# EAGLE library part FT232R (library ICs)
FTDI, USB TO UART, SMD, 28SSOP
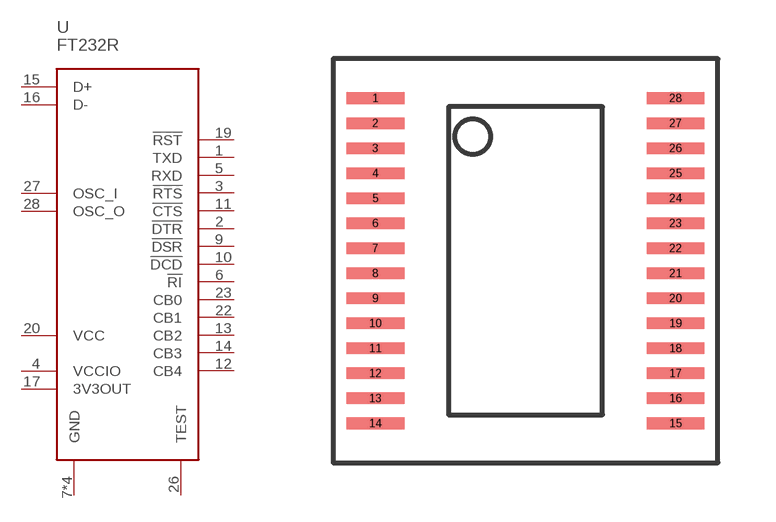
[diagram p60: symbol with the pads of SSOP28; footprint SSOP28]

Designator prefix U

## FT232RL (FARNELL: 1146032; PRICE_PER: 3.09; VALUE: FT232R)  [SSOP28]
1  TXD
2  !DTR
3  !RTS
4  VCCIO
5  RXD
6  !RI
7  GND
9  !DSR
10  !DCD
11  !CTS
12  CB4
13  CB2
14  CB3
15  D+
16  D-
17  3V3OUT
18  GND
19  !RST
20  VCC
21  GND
22  CB1
23  CB0
25  GND
26  TEST
27  OSC_I
28  OSC_O

## Footprint SSOP28 (pad centres in mm)
smd 1.5 x 0.3: 1 -3.9,4.225; 2 -3.9,3.575; 3 -3.9,2.925; 4 -3.9,2.275; 5 -3.9,1.625; 6 -3.9,0.975; 7 -3.9,0.325; 8 -3.9,-0.325; 9 -3.9,-0.975; 10 -3.9,-1.625; 11 -3.9,-2.275; 12 -3.9,-2.925; 13 -3.9,-3.575; 14 -3.9,-4.225; 15 3.9,-4.225; 16 3.9,-3.575; 17 3.9,-2.925; 18 3.9,-2.275; 19 3.9,-1.625; 20 3.9,-0.975; 21 3.9,-0.325; 22 3.9,0.325; 23 3.9,0.975; 24 3.9,1.625; 25 3.9,2.275; 26 3.9,2.925; 27 3.9,3.575; 28 3.9,4.225